# Altium footprint library SDR1105.PcbLib: 1 footprints
Each footprint in its own frame and in the unit in brackets; x right, y up, seen from the top. Pads: shape width x height; smd on the part's side, far side on the other; paste and mask are expansions set on the pad; w line width, h text height; cw(c..) or ccw(c..) is an arc to the next point about the centre after c.
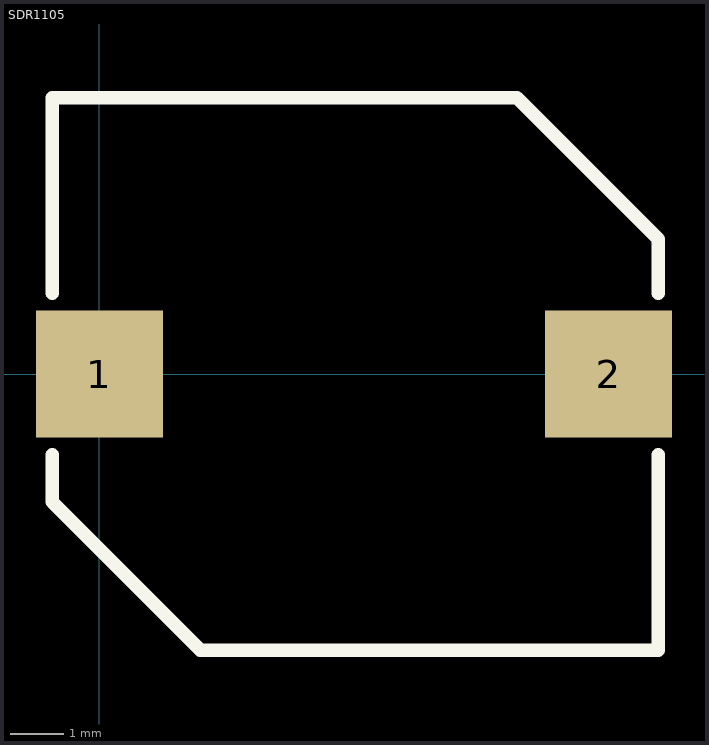
[diagram p0: the footprint, top view; thin cyan lines are the x and y axes]

## SDR1105 [mm] "inductor"
pads (2):
  rect 2.4x2.4 smd: 1(0,0) 2(9.6,0)
Top Overlay:
  lines w0.254: -0.889,-1.524 -0.889,-2.413 1.905,-5.207 10.541,-5.207 10.541,-1.524 ; -0.889,1.524 -0.889,5.207 7.874,5.207 10.541,2.54 10.541,1.524
3D body "sdr1105.stp": height 4.8, standoff 0, extent -0.724,-5 10.376,5